# Altium schematic symbol library PCM1802_Board.SchLib: 1 symbol
Pins are listed as number, name and electrical type; pins without a type are passive.

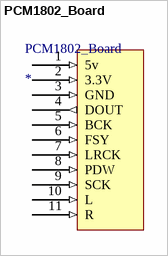
[diagram p0: symbol PCM1802_Board]

## PCM1802_Board
designator PCM1802_Board
pins: 1 5v (in), 2 3.3V (in), 3 GND (in), 4 DOUT (out), 5 BCK (in), 6 FSY (in), 7 LRCK (in), 8 PDW (in), 9 SCK (in), 10 L (in), 11 R (in)